# EAGLE library part WE-RJ45_10G_7499611424 (library WE-RJ45_10G)
WE-RJ45 10G Transformer Characteristics RJ45 connector with integrated transformer & common mode choke 10G Base-T PoE(+) over 4 pairs Compliant with IEEE standards: 802.3af, 802.3at, 802.3an and 802.3bt Suitable for industrial temperatures: -40°C up to +85°C Applications Office and factory access points Gateways Servers High-speed routers and switches HDBaseT applications <https://www.we-online.com/components/media/o122818v209%20Family_WE-RJ45LAN_10G_7499611420_a.jpg> Details see: www.we-online.com/en/components/products/WE-LAN-RJ45-10G <www.we-online.com/catalog/WE-LAN-RJ45-10G/?utm_source=eagle_model&utm_medium=description_link&utm_campaign=eisos_eagle> Create By Ella Wu 2020-10-26 2020 (C) Wurth Elektronik
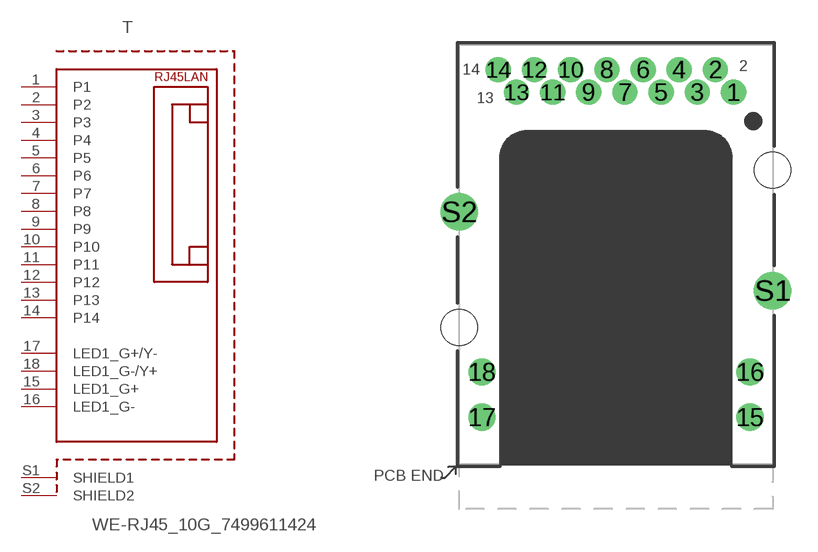
[diagram p6: symbol with the pads of 7499611424; footprint 7499611424]

Designator prefix T

## WE-RJ45_10G_7499611424 (DATA-RATE: 10GBASE-T; DATASHEET-URL: https://www.we-online.com/redexpert/spec/7499611424?ae; IMPROVED-CMRR: No; LED: yellow/green-green; MOUNT: THT; OPERATING-TEMPERATURE: -40 °C up to +85 °C; PART-NUMBER: 7499611424; PHY-CHIP-MODE: current & voltage; POE: non-PoE; PORTS: 1; SHIELD-TABS: Yes; TAB: Up; USB: No; VALUE: 7499611424)  [7499611424]
1  P1
2  P2
3  P3
4  P4
5  P5
6  P6
7  P7
8  P8
9  P9
10  P10
11  P11
12  P12
13  P13
14  P14
15  LED1_G+
16  LED1_G-
17  LED1_G+/Y-
18  LED1_G-/Y+
S1  SHIELD1  pwr
S2  SHIELD2  pwr

## Footprint 7499611424 (pad centres in mm)
WE-RJ45 10G Transformer 10G Base-T MAX HEIGHT=11.3mm
drill 0.91: 1 6.598,11.13; 2 5.582,12.4; 3 4.567,11.13; 4 3.553,12.4; 5 2.538,11.13; 6 1.522,12.4; 7 0.507,11.13; 8 -0.507,12.4; 9 -1.522,11.13; 10 -2.538,12.4; 11 -3.553,11.13; 12 -4.567,12.4; 13 -5.582,11.13; 14 -6.598,12.4
drill 1.02: 15 7.52,-7.11; 16 7.52,-4.57; 17 -7.52,-7.11; 18 -7.52,-4.57
drill 1.4: S1 8.79,0; S2 -8.79,4.42
hole 2.03 at -8.79,-2.08
hole 2.03 at 8.79,6.76